# EAGLE library part 332-12 (library con-garry)
12 Pin - 2mm Dual Row Source: www.mpe-connector.de / garry_shortform_2012.pdf
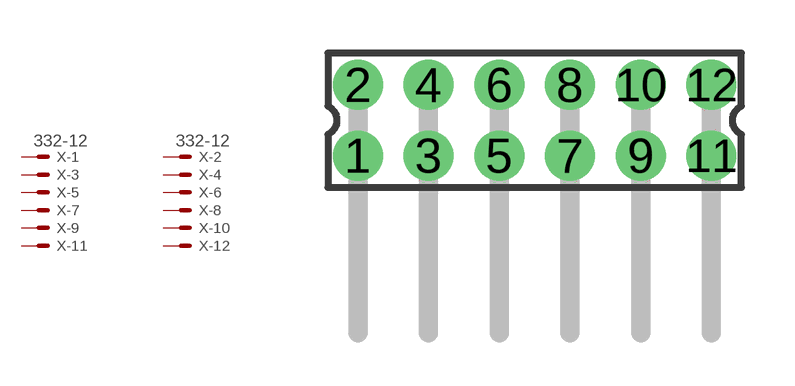
[diagram p15: symbol with the pads of 332-12; footprint 332-12]

Designator prefix X; gates -1=MV -2=MV -3=M -4=M -5=M -6=M -7=M -8=M -9=M -10=M -11=M -12=M

## 332-12  [332-12]
1  -1:S  pas
2  -2:S  pas
3  -3:S  pas
4  -4:S  pas
5  -5:S  pas
6  -6:S  pas
7  -7:S  pas
8  -8:S  pas
9  -9:S  pas
10  -10:S  pas
11  -11:S  pas
12  -12:S  pas

## Footprint 332-12 (pad centres in mm)
12 Pin - 2mm Dual Row Source: www.mpe-connector.de / garry_shortform_2012.pdf
drill 0.9 pad 1.27: 1 -5,-1; 2 -5,1; 3 -3,-1; 4 -3,1; 5 -1,-1; 6 -1,1; 7 1,-1; 8 1,1; 9 3,-1; 10 3,1; 11 5,-1; 12 5,1